# Altium footprint library 2059570471.PcbLib: 1 footprints
Each footprint in its own frame and in the unit in brackets; x right, y up, seen from the top. Pads: shape width x height; smd on the part's side, far side on the other; paste and mask are expansions set on the pad; w line width, h text height; cw(c..) or ccw(c..) is an arc to the next point about the centre after c.
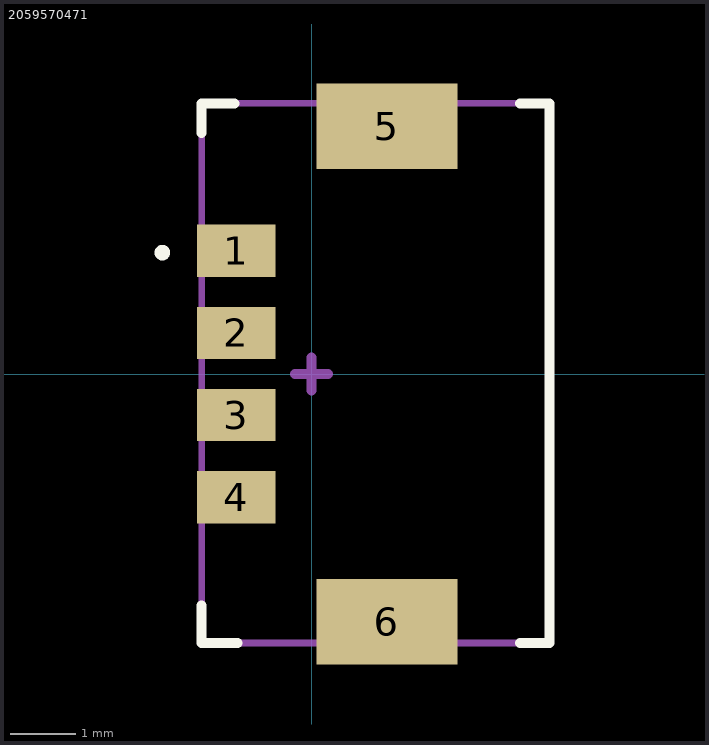
[diagram p0: the footprint, top view; thin cyan lines are the x and y axes]

## 2059570471 [mm]
pads (6):
  rect 1.2x0.8 smd mask+0.051: 1(-1.147,1.875) 2(-1.147,0.625) 3(-1.147,-0.625) 4(-1.147,-1.875)
  rect 2.15x1.3 smd mask+0.051: 5(1.148,3.775) 6(1.148,-3.775)
Top Overlay:
  circle w0.127: c-2.275,1.85 r0.056
  lines w0.15: -1.675,-3.525 -1.675,-4.1 -1.125,-4.1 ; -1.675,3.675 -1.675,4.125 -1.175,4.125 ; 3.175,-4.1 3.625,-4.1 3.625,4.125 3.175,4.125
Mechanical 13:
  lines w0.1: -1.675,-4.1 3.625,-4.1 3.625,4.125 -1.675,4.125 -1.675,-4.1
Mechanical 15:
  lines w0.15: -0.25,0 0,0 ; 0,0 0,0.25 0,0 ; 0,0 0.25,0 0,0 ; 0,0 0,-0.25 0,0
3D body "2059570471.stp": height 4.66, standoff 0.01, extent -1.68,-4.125 3.62,4.125